# Altium footprint library 3M_2908-05WB-MG.PcbLib: 1 footprints
Each footprint in its own frame and in the unit in brackets; x right, y up, seen from the top. Pads: shape width x height; smd on the part's side, far side on the other; paste and mask are expansions set on the pad; w line width, h text height; cw(c..) or ccw(c..) is an arc to the next point about the centre after c.
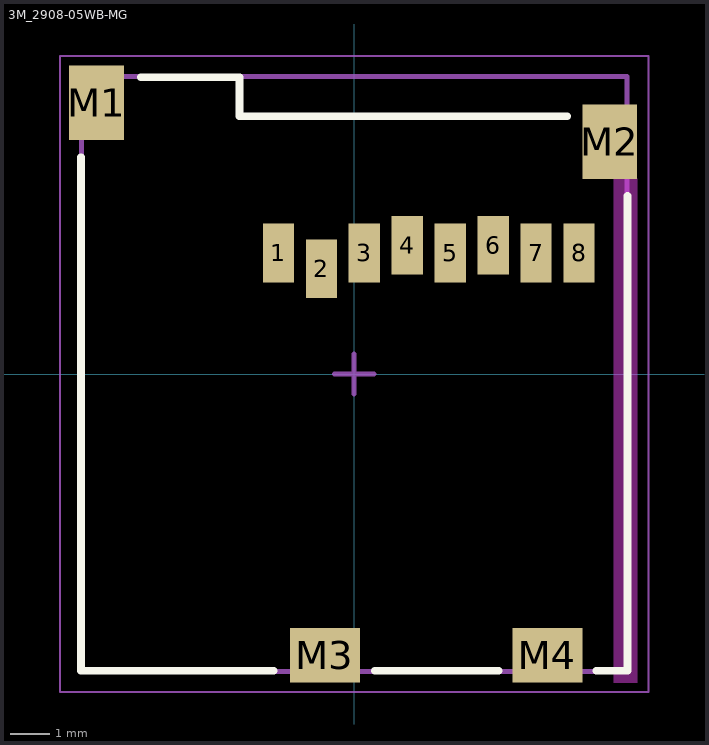
[diagram p0: the footprint, top view; thin cyan lines are the x and y axes]

## 3M_2908-05WB-MG [mm]
height 1.85
pads (12):
  rect 0.8x1.5 smd mask+0.051: 1(-1.94,3.1) 2(-0.84,2.7) 3(0.26,3.1) 4(1.36,3.3) 5(2.46,3.1) 6(3.56,3.3) 7(4.66,3.1) 8(5.76,3.1)
  rect 1.4x1.9 smd mask+0.051: M1(-6.6,6.95) M2(6.55,5.95)
  rect 1.8x1.4 smd mask+0.051: M3(-0.75,-7.2) M4(4.95,-7.2)
Top Overlay:
  lines w0.2: -7,5.55 -7,-7.6 -2.07,-7.6 ; -5.46,7.6 -2.94,7.6 -2.94,6.6 5.45,6.6 ; 0.53,-7.6 3.7,-7.6 ; 6.21,-7.6 7,-7.6 7,4.56
Keep-Out Layer:
  region: 7.25,-7.905 6.654,-7.905 6.654,5 7.25,5
  region: 7.25,-7.909 6.657,-7.909 6.657,4.99 7.25,4.99
Mechanical 13:
  lines w0.127: -2.94,6.6 -2.94,7.6 ; -6.985,-7.62 -6.985,7.62 6.985,7.62 6.985,-7.62 -6.985,-7.62
Mechanical 15:
  lines w0.05: -7.54,-8.15 7.54,-8.15 7.54,8.15 -7.54,8.15 -7.54,-8.15
  lines w0.127: -0.508,0 0,0 ; 0,-0.508 0,0 ; 0,0.508 0,0 ; 0.508,0 0,0
3D body "2908-05WB-MG.STEP": height 1.85, standoff 0, extent -7,-7.6 7,7.6